# Altium footprint library ESP32_Carrier.PcbLib: 1 footprints
Each footprint in its own frame and in the unit in brackets; x right, y up, seen from the top. Pads: shape width x height; smd on the part's side, far side on the other; paste and mask are expansions set on the pad; w line width, h text height; cw(c..) or ccw(c..) is an arc to the next point about the centre after c.
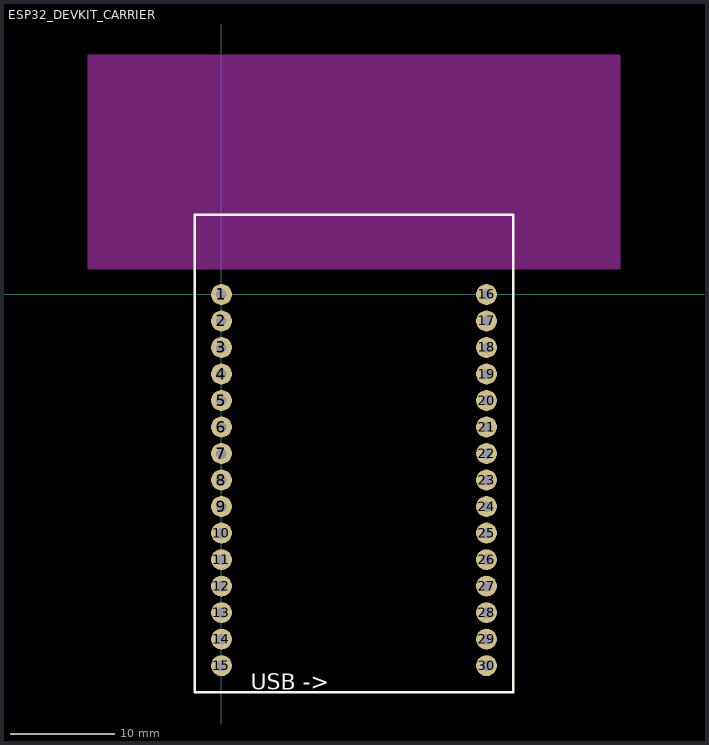
[diagram p0: the footprint, top view; thin cyan lines are the x and y axes]

## ESP32_DEVKIT_CARRIER [mm]
pads (30):
  round 2 hole 1: 1(0,0) 2(0,-2.54) 3(0,-5.08) 4(0,-7.62) 5(0,-10.16) 6(0,-12.7) 7(0,-15.24) 8(0,-17.78) 9(0,-20.32) 10(0,-22.86) 11(0,-25.4) 12(0,-27.94) 13(0,-30.48) 14(0,-33.02) 15(0,-35.56) 16(25.4,0) 17(25.4,-2.54) 18(25.4,-5.08) 19(25.4,-7.62) 20(25.4,-10.16) 21(25.4,-12.7) 22(25.4,-15.24) 23(25.4,-17.78) 24(25.4,-20.32) 25(25.4,-22.86) 26(25.4,-25.4) 27(25.4,-27.94) 28(25.4,-30.48) 29(25.4,-33.02) 30(25.4,-35.56)
Top Overlay:
  lines w0.254: -2.54,-38.1 27.94,-38.1 27.94,7.62 -2.54,7.62 -2.54,-38.1
  text "USB ->" at 2.794,-37.846 h1.52
Keep-Out Layer:
  region: -12.7,22.86 -12.7,2.54 38.1,2.54 38.1,22.86
  lines w0.254: -12.7,2.54 -12.7,22.86 38.1,22.86 38.1,2.54 -2.54,2.54 -12.7,2.54